# Altium integrated library LTC6994IS6-1.IntLib: 1 symbol
Pins are listed as number, name and electrical type; pins without a type are passive.

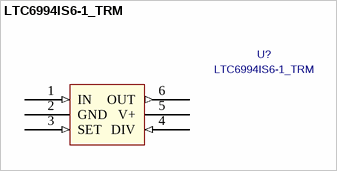
[diagram p0: symbol LTC6994IS6-1_TRM]

## LTC6994IS6-1_TRM
designator U?
Manufacturer_Part_Number: LTC6994IS6-1#TRMPBF; Vendor: Linear Technology; Value: LTC6994IS6-1_TRM
footprint TSOT-23_S6
pins: 1 IN (in), 2 GND (power), 3 SET (in), 4 DIV (in), 5 V+ (power), 6 OUT (out)